# EAGLE library part HEADER-10P-2R-DIP-2_54MM (library SamacSys_Parts)
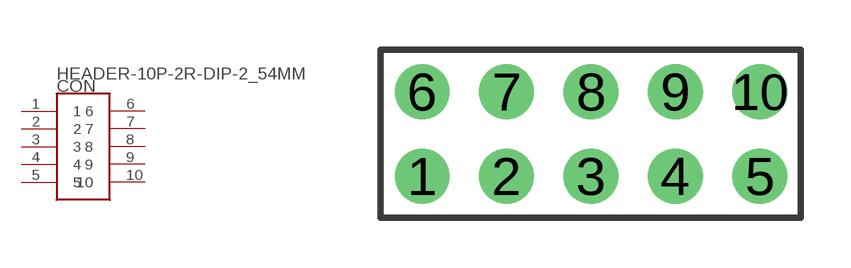
[diagram p24: symbol with the pads of HEADER-10P-2R-DIP-2_54MM; footprint HEADER-10P-2R-DIP-2_54MM]

Designator prefix CON

## HEADER-10P-2R-DIP-2_54MM  [HEADER-10P-2R-DIP-2_54MM]
1  1
2  2
3  3
4  4
5  5
6  6
7  7
8  8
9  9
10  10

## Footprint HEADER-10P-2R-DIP-2_54MM (pad centres in mm)
825433-5
drill 1.1 pad 1.65: 1 0,0; 2 2.54,0; 3 5.08,0; 4 7.62,0; 5 10.16,0; 6 0,2.54; 7 2.54,2.54; 8 5.08,2.54; 9 7.62,2.54; 10 10.16,2.54